# EAGLE library part VL53L0X (library VL53L0X)
World smallest Time-of-Flight ranging and gesture detection sensor Source: Datasheet <https://www.mouser.com/ds/2/389/vl53l0x-1156212.pdf>
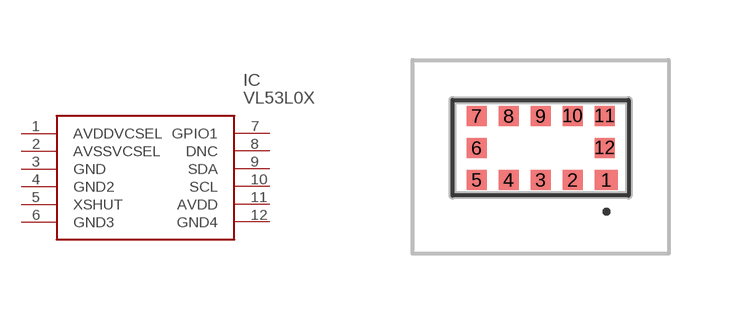
[diagram p0: symbol with the pads of VL53L0X; footprint VL53L0X]

Designator prefix IC

## VL53L0X (Description: World smallest Time-of-Flight ranging and gesture detection sensor; Height: 1mm; Manufacturer_Name: STMicroelectronics; Manufacturer_Part_Number: VL53L0X)  [VL53L0X]
1  AVDDVCSEL
2  AVSSVCSEL
3  GND
4  GND2
5  XSHUT
6  GND3
7  GPIO1
8  DNC
9  SDA
10  SCL
11  AVDD
12  GND4

## Footprint VL53L0X (pad centres in mm)
VL53L0X
smd 0.58 x 0.5: 1 1.64,-0.575
smd 0.5 x 0.5: 2 0.8,-0.575; 3 0,-0.575; 4 -0.8,-0.575; 5 -1.6,-0.575; 6 -1.6,0.225; 7 -1.6,1.025; 8 -0.8,1.025; 9 0,1.025; 10 0.8,1.025; 11 1.6,1.025; 12 1.6,0.225